# EAGLE library part BSP742 (library JLB6_power)
High side power switch 400mA BSP742-ISP742 Infineon
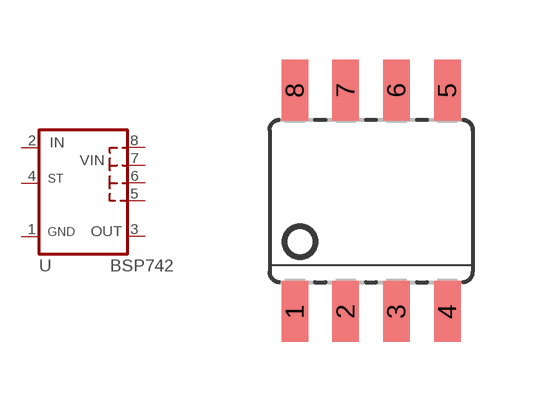
[diagram p12: symbol with the pads of SO8; footprint SO8]

Designator prefix U

## BSP742  [SO8]
1  GND
2  IN  in
3  OUT  out
4  ST  pas
5  VIN  pwr
6  VIN  pwr
7  VIN  pwr
8  VIN  pwr

## Footprint SO8 (pad centres in mm)
smd 0.66 x 1.524: 1 -1.905,-2.769; 2 -0.635,-2.769; 3 0.635,-2.769; 4 1.905,-2.769; 5 1.905,2.769; 6 0.635,2.769; 7 -0.635,2.769; 8 -1.905,2.769